# EAGLE library part SDCARD (library akash1)
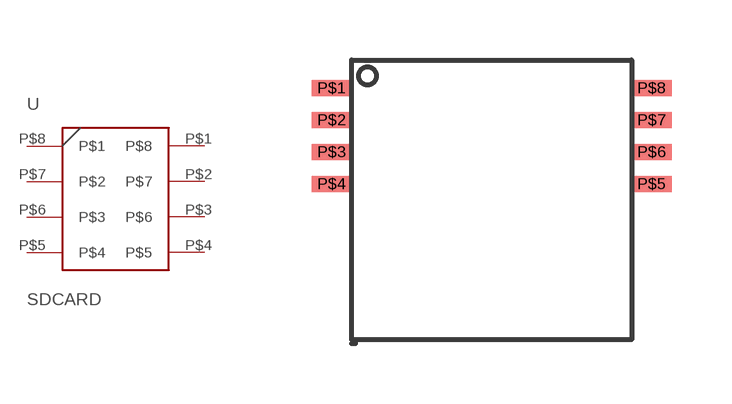
[diagram p0: symbol with the pads of SDCARD; footprint SDCARD]

Designator prefix -

## SDCARD  [SDCARD]
P$1  P$8
P$2  P$7
P$3  P$6
P$4  P$5
P$5  P$4
P$6  P$3
P$7  P$2
P$8  P$1

## Footprint SDCARD (pad centres in mm)
smd 1 x 0.4: P$1 -0.5,6.3; P$2 -0.5,5.5; P$3 -0.5,4.7; P$4 -0.5,3.9; P$5 7.5,3.9; P$6 7.5,4.7; P$7 7.5,5.5; P$8 7.5,6.3